# Altium schematic symbol library Diode_Diodes_MMBZ5240B-7-F_eec.SchLib: 1 symbol
Pins are listed as number, name and electrical type; pins without a type are passive.

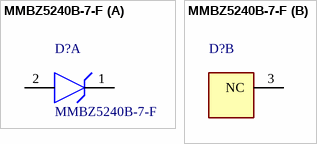
[diagram p0: symbol MMBZ5240B-7-F]

## MMBZ5240B-7-F
designator D?  (value not drawn)
footprint Diodes_SOT23_0
part A pins: 1 C, 2 A
part B pins: 3 NC